# Altium footprint library L_SRR1280-XXXY.PcbLib: 1 footprints
Each footprint in its own frame and in the unit in brackets; x right, y up, seen from the top. Pads: shape width x height; smd on the part's side, far side on the other; paste and mask are expansions set on the pad; w line width, h text height; cw(c..) or ccw(c..) is an arc to the next point about the centre after c.
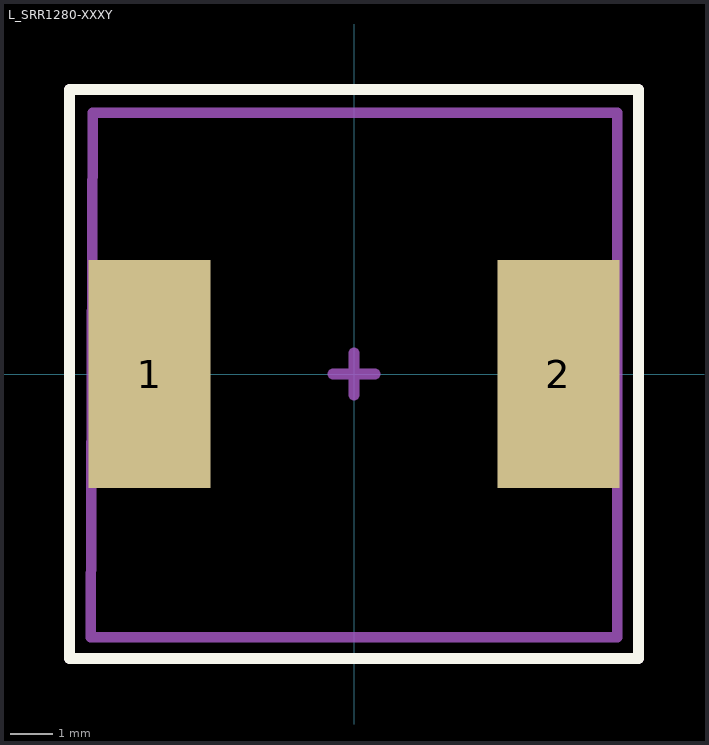
[diagram p0: the footprint, top view; thin cyan lines are the x and y axes]

## L_SRR1280-XXXY [mm]
pads (2):
  rect 2.9x5.4 smd: 1(-4.85,0) 2(4.85,0)
Top Overlay:
  lines w0.254: -6.75,-6.75 -6.75,6.75 6.75,6.75 6.75,3.25 6.75,-6.75 -6.75,-6.75
Mechanical 13:
  lines w0.254: -6.25,-6.25 6.25,-6.25 6.25,6.2 -6.2,6.2 -6.25,-6.25
Mechanical 15:
  lines w0.254: -0.5,0 0.5,0 ; 0,-0.5 0,0.5 ; -6.75,-6.75 6.75,-6.75 6.75,6.75 -6.75,6.75 -6.75,-6.75
Mechanical 17:
  text "'.Designator'" at -4,-4.5 h0.64
Mechanical 19:
  text "'.Comment'" at -2.75,1.75 h0.64
3D body "User Library-Inductor SRR1280 Series.step": height 7.51, standoff 0, extent -6.25,-6.25 6.25,6.25